# Altium footprint library MicroFit 3.0 Connctors.PcbLib: 2 footprints
Each footprint in its own frame and in the unit in brackets; x right, y up, seen from the top. Pads: shape width x height; smd on the part's side, far side on the other; paste and mask are expansions set on the pad; w line width, h text height; cw(c..) or ccw(c..) is an arc to the next point about the centre after c.
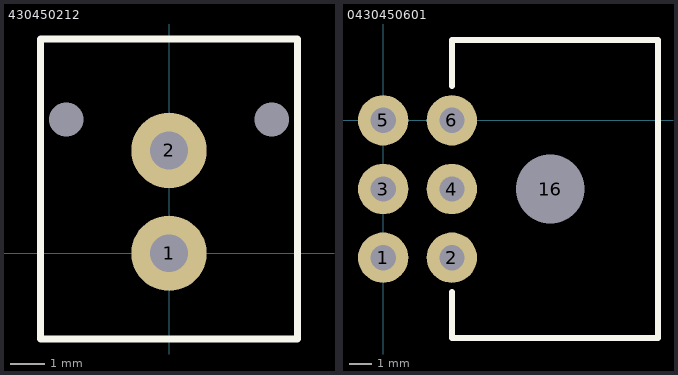
[diagram p0: the footprints below, top view; thin cyan lines are the x and y axes]

## 430450212 [mm]
pads (4):
  round 2.2 hole 1.1: 1(0,0) 2(0,3)
  round 0 hole 1: 1337(-3,3.9) 1337(3,3.9)
Top Overlay:
  lines w0.2: -3.75,-2.5 -3.75,6.25 3.75,6.25 3.75,-2.5 -3.75,-2.5
3D body "430450212.stp": height 9.95, standoff -3.14, extent -3.55,-2.485 3.6,6.285

## 0430450601 [mm]
pads (7):
  round 2.2 hole 1.1: 1(0,-6) 2(3,-6) 3(0,-3) 4(3,-3) 5(0,0) 6(3,0)
  round 1.524 hole 3: 16(7.3,-3)
Top Overlay:
  lines w0.254: 3,-7.5 3,-9.5 12,-9.5 12,3.5 3,3.5 3,1.5
3D body "430450601.stp": height 8.83, standoff -3.12, extent -0.285,-9.575 11.955,3.575